# Altium schematic symbol library SwitchingSupply.SchLib: 20 symbols (part 2 of 2)
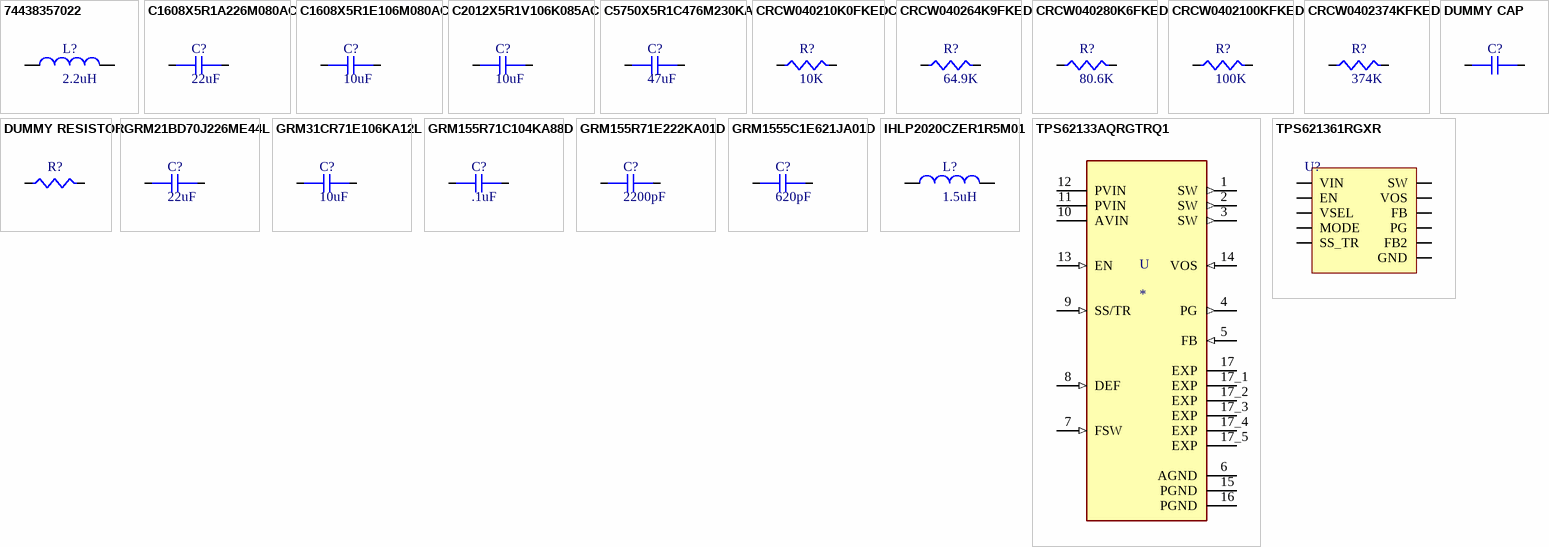
[diagram p1: symbols 74438357022 to TPS621361RGXR]

## GRM155R71E222KA01D
designator C?, comment 2200pF
CAP CER 2200PF 25V X7R 0402; Dielectric Material: Ceramic; Capacitance: 10uF; Tolerance: 20%; Dielectric: X5R; RoHS: Yes; Mount: Surface Mount; Case/Package: 0603; Weight: 7.1E-05oz; Case Code (Imperial): 0603; Case Code (Metric): 1608; Min Operating Temperature: -55°C; Max Operating Temperature: 85°C; Packaging: Tape and Reel; Voltage Rating: 25V; Termination: SMD/SMT; Voltage Rating (DC): 25V; Composition: Ceramic; Package Quantity: 1; Length: 1.6mm; Height: 0.8mm; Width: 0.8mm; Thickness: 0.039inch; Depth: 0.8mm; Lead Free: Lead Free; REACH SVHC: No SVHC; ComponentLink1URL: http://components.arrow.com/part/dataview/0323_06887183?src-supplier=Arrow+Europe; ComponentLink1Description: http://components.arrow.com/part/dataview/0323_06887183?src-supplier=Arrow+Europe; ComponentLink2URL: http://www.farnell.com/datasheets/2792994.pdf?src-supplier=Farnell; ComponentLink2Description: http://www.farnell.com/datasheets/2792994.pdf?src-supplier=Farnell; ComponentLink3URL: http://www.farnell.com/datasheets/2291921.pdf?src-supplier=Avnet; ComponentLink3Description: http://www.farnell.com/datasheets/2291921.pdf?src-supplier=Avnet; ComponentLink4URL: http://www.farnell.com/datasheets/2792994.pdf?src-supplier=Newark; ComponentLink4Description: http://www.farnell.com/datasheets/2792994.pdf?src-supplier=Newark; ComponentLink5URL: http://www.farnell.com/datasheets/2291921.pdf?src-supplier=Newark; ComponentLink5Description: http://www.farnell.com/datasheets/2291921.pdf?src-supplier=Newark; ComponentLink6URL: http://www.farnell.com/datasheets/2792994.pdf?src-supplier=Element14; ComponentLink6Description: http://www.farnell.com/datasheets/2792994.pdf?src-supplier=Element14; ComponentLink7URL: http://www.farnell.com/datasheets/1913358.pdf?src-supplier=Element14; ComponentLink7Description: http://www.farnell.com/datasheets/1913358.pdf?src-supplier=Element14; ComponentLink8URL: https://product.tdk.com/info/en/catalog/datasheets/mlcc_commercial_general_en.pdf?src-supplier=Digi-Key; ComponentLink8Description: https://product.tdk.com/info/en/catalog/datasheets/mlcc_commercial_general_en.pdf?src-supplier=Digi-Key; ComponentLink9URL: http://www.farnell.com/datasheets/2291921.pdf?src-supplier=RSComponents; ComponentLink9Description: http://www.farnell.com/datasheets/2291921.pdf?src-supplier=RSComponents; ComponentLink10URL: http://www.farnell.com/datasheets/2291921.pdf?src-supplier=Verical; ComponentLink10Description: http://www.farnell.com/datasheets/2291921.pdf?src-supplier=Verical; ComponentLink11URL: http://www.farnell.com/datasheets/2291921.pdf?src-supplier=Mouser; ComponentLink11Description: http://www.farnell.com/datasheets/2291921.pdf?src-supplier=Mouser; ComponentLink12URL: http://www.farnell.com/datasheets/2291921.pdf?src-supplier=Quest; ComponentLink12Description: http://www.farnell.com/datasheets/2291921.pdf?src-supplier=Quest; ComponentLink13URL: http://www.farnell.com/datasheets/2291921.pdf?src-supplier=TTI; ComponentLink13Description: http://www.farnell.com/datasheets/2291921.pdf?src-supplier=TTI; Supplier 1: Digi-Key; Supplier Part Number 1: 490-5419-1-ND
footprint C0402
pins: 1, 2

## GRM1555C1E621JA01D
designator C?, comment 620pF
CAP CER 620PF 25V C0G/NP0 0402; Dielectric Material: Ceramic; Capacitance: 10uF; Tolerance: 20%; Dielectric: X5R; RoHS: Yes; Mount: Surface Mount; Case/Package: 0603; Weight: 7.1E-05oz; Case Code (Imperial): 0603; Case Code (Metric): 1608; Min Operating Temperature: -55°C; Max Operating Temperature: 85°C; Packaging: Tape and Reel; Voltage Rating: 25V; Termination: SMD/SMT; Voltage Rating (DC): 25V; Composition: Ceramic; Package Quantity: 1; Length: 1.6mm; Height: 0.8mm; Width: 0.8mm; Thickness: 0.039inch; Depth: 0.8mm; Lead Free: Lead Free; REACH SVHC: No SVHC; ComponentLink1URL: http://components.arrow.com/part/dataview/0323_06887183?src-supplier=Arrow+Europe; ComponentLink1Description: http://components.arrow.com/part/dataview/0323_06887183?src-supplier=Arrow+Europe; ComponentLink2URL: http://www.farnell.com/datasheets/2792994.pdf?src-supplier=Farnell; ComponentLink2Description: http://www.farnell.com/datasheets/2792994.pdf?src-supplier=Farnell; ComponentLink3URL: http://www.farnell.com/datasheets/2291921.pdf?src-supplier=Avnet; ComponentLink3Description: http://www.farnell.com/datasheets/2291921.pdf?src-supplier=Avnet; ComponentLink4URL: http://www.farnell.com/datasheets/2792994.pdf?src-supplier=Newark; ComponentLink4Description: http://www.farnell.com/datasheets/2792994.pdf?src-supplier=Newark; ComponentLink5URL: http://www.farnell.com/datasheets/2291921.pdf?src-supplier=Newark; ComponentLink5Description: http://www.farnell.com/datasheets/2291921.pdf?src-supplier=Newark; ComponentLink6URL: http://www.farnell.com/datasheets/2792994.pdf?src-supplier=Element14; ComponentLink6Description: http://www.farnell.com/datasheets/2792994.pdf?src-supplier=Element14; ComponentLink7URL: http://www.farnell.com/datasheets/1913358.pdf?src-supplier=Element14; ComponentLink7Description: http://www.farnell.com/datasheets/1913358.pdf?src-supplier=Element14; ComponentLink8URL: https://product.tdk.com/info/en/catalog/datasheets/mlcc_commercial_general_en.pdf?src-supplier=Digi-Key; ComponentLink8Description: https://product.tdk.com/info/en/catalog/datasheets/mlcc_commercial_general_en.pdf?src-supplier=Digi-Key; ComponentLink9URL: http://www.farnell.com/datasheets/2291921.pdf?src-supplier=RSComponents; ComponentLink9Description: http://www.farnell.com/datasheets/2291921.pdf?src-supplier=RSComponents; ComponentLink10URL: http://www.farnell.com/datasheets/2291921.pdf?src-supplier=Verical; ComponentLink10Description: http://www.farnell.com/datasheets/2291921.pdf?src-supplier=Verical; ComponentLink11URL: http://www.farnell.com/datasheets/2291921.pdf?src-supplier=Mouser; ComponentLink11Description: http://www.farnell.com/datasheets/2291921.pdf?src-supplier=Mouser; ComponentLink12URL: http://www.farnell.com/datasheets/2291921.pdf?src-supplier=Quest; ComponentLink12Description: http://www.farnell.com/datasheets/2291921.pdf?src-supplier=Quest; ComponentLink13URL: http://www.farnell.com/datasheets/2291921.pdf?src-supplier=TTI; ComponentLink13Description: http://www.farnell.com/datasheets/2291921.pdf?src-supplier=TTI; Supplier 1: Digi-Key; Supplier Part Number 1: 490-6181-1-ND
footprint C0402
pins: 1, 2

## IHLP2020CZER1R5M01
designator L?, comment 1.5uH
FIXED IND 1.5UH 7.2A 20.7 MOHM; Manufacturer 1: Wurth Electronics; Manufacturer Part Number 1: 74438357022; Core Material: Metal,Composite; Inductance: 2.2uH; Tolerance: 20%; Current Rating: 5.2A; Saturation Current: 7A; Shielding: Shielded; DC Resistance (DCR): 26mR; Self Resonant Frequency: 35MHz; Test Frequency: 100kHz; Supplier 1: Digi-Key; Supplier Part Number 1: 732-11201-1-ND; Stock 1: 1686; Pricing 1: 1=1.58000, 10=1.50700, 50=1.45200, 100=1.32000 (USD); RoHS: No; Mount: Surface Mount; Case/Package: Nonstandard; Min Operating Temperature: -40°C; Max Operating Temperature: 125°C; Packaging: Cut Tape; ComponentLink1URL: http://www.farnell.com/datasheets/2579569.pdf?src-supplier=Farnell; ComponentLink1Description: http://www.farnell.com/datasheets/2579569.pdf?src-supplier=Farnell; ComponentLink2URL: https://katalog.we-online.de/pbs/datasheet/74438357022.pdf?src-supplier=Digi-Key; ComponentLink2Description: https://katalog.we-online.de/pbs/datasheet/74438357022.pdf?src-supplier=Digi-Key; ComponentLink3URL: http://www.farnell.com/datasheets/2579569.pdf?src-supplier=Newark; ComponentLink3Description: http://www.farnell.com/datasheets/2579569.pdf?src-supplier=Newark
footprint IHLP-2020CZ-01
pins: 1, 2

## TPS62133AQRGTRQ1
designator U
Buck Switching Regulator IC Positive Fixed 5V 1 Output 3A 16-VFQFN Exposed Pad; MF: Texas Instruments; MP: TPS62133AQRGTRQ1; Value: *; SnapEDA_Link: https://www.snapeda.com/parts/TPS62133AQRGTRQ1/Texas%20Instruments/view-part/454614/?ref=snap; Price: None; Availability: Unavailable; Package: VQFN-16 Texas Instruments; Supplier 1: Digi-Key; Supplier Part Number 1: 296-40835-1-ND
footprint QFN50P300X300X100-17N
pins: 1 SW (out), 2 SW (out), 3 SW (out), 4 PG (out), 5 FB (in), 6 AGND (power), 7 FSW (in), 8 DEF (in), 9 SS/TR (in), 10 AVIN (power), 11 PVIN (power), 12 PVIN (power), 13 EN (in), 14 VOS (in), 15 PGND (power), 16 PGND (power), 17 EXP, 17_1 EXP, 17_2 EXP, 17_3 EXP, 17_4 EXP, 17_5 EXP

## TPS621361RGXR
designator U?
3-17V 4.0A Step-Down Converter with 1% accuracy and PFM/Forced-PWM in 2x3QFN; Manufacturer 1: Texas Instruments; Manufacturer Part Number 1: TPS621361RGXR; Output Type: Adjustable; Output Configuration: Positive; Number of Outputs: 1; Min Input Voltage: 3V; Max Input Voltage: 17V; Min Output Voltage: 800mV; Max Output Voltage: 12V; Output Current: 4A; Switching Frequency: 1MHz; Synchronous Rectifier: Yes; Supplier 1: Digi-Key; Supplier Part Number 1: 296-50117-1-ND; Stock 1: 3019; Pricing 1: 1=2.15000, 10=1.93500, 25=1.82520, 100=1.46000, 250=1.27752, 500=1.24100, 1000=0.98550 (USD); RoHS: No; Mount: Surface Mount; Case/Package: VQFN; Number of Pins: 11; Min Operating Temperature: -40°C; Max Operating Temperature: 125°C; Packaging: Cut Tape; ComponentLink1URL: http://www.ti.com/lit/ds/symlink/tps62136.pdf?src-supplier=Digi-Key; ComponentLink1Description: http://www.ti.com/lit/ds/symlink/tps62136.pdf?src-supplier=Digi-Key
footprint VQFN50P200X300X100-12N
pins: 1 VIN, 2 SW, 3 GND, 4 FB2, 5 FB, 6 VOS, 7 PG, 8 EN, 9 SS_TR, 10 MODE, 11 VSEL